# Altium schematic symbol library NYS2162-U.SchLib: 1 symbol
Pins are listed as number, name and electrical type; pins without a type are passive.

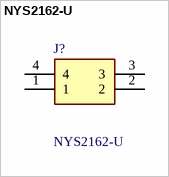
[diagram p0: symbol NYS2162-U]

## NYS2162-U
designator J?
Phone Connectors 1/4" MONO JACK .322" GOLD REAN; Manufacturer_Name: Neutrik; Geometry.Height: 17.6mm; Mouser Part Number: 568-NYS2162-U; Mouser Price/Stock: https://www.mouser.co.uk/ProductDetail/REAN/NYS2162-U?qs=%252B86TLfaev286a5wVB8a3bw%3D%3D; Manufacturer_Part_Number: NYS2162-U; Datasheet Link: https://www.rean-connectors.com/media/9015/download/nys-2162.pdf?v=1
footprint NYS2162U
pins: 1, 2, 3, 4